# EAGLE library part SKQUAAA010 (library MyLib2)
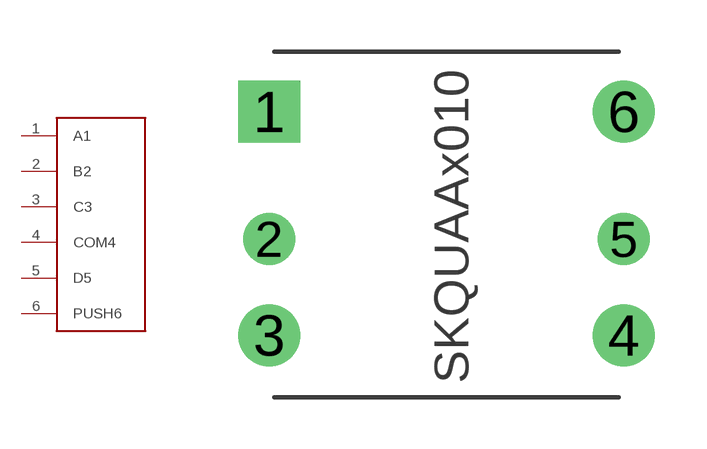
[diagram p0: symbol with the pads of SKQUAAA010; footprint SKQUAAA010]

Designator prefix -

## SKQUAAA010  [SKQUAAA010]
1  A1
2  B2
3  C3
4  COM4
5  D5
6  PUSH6

## Footprint SKQUAAA010 (pad centres in mm)
drill 1.2 square: 1 0,6.5
drill 1: 2 0,2.8; 5 10.3,2.8
drill 1.2: 3 0,0; 4 10.3,0; 6 10.3,6.5